# EAGLE library part PIN-LEISTE_1*32 (library Stecker_Pins)
Pin-Leiste, 1*32
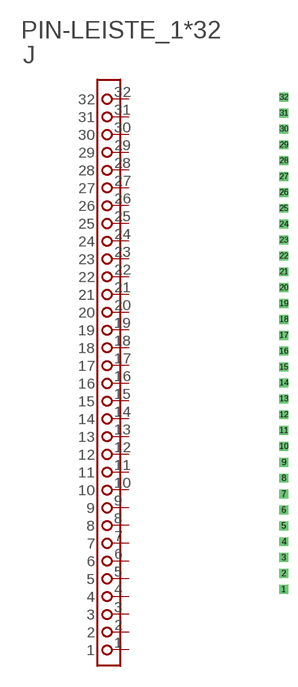
[diagram p7: symbol with the pads of 1X32; footprint 1X32]

Designator prefix J

## PIN-LEISTE_132  [1X32]
1  1  pas
2  2  pas
3  3  pas
4  4  pas
5  5  pas
6  6  pas
7  7  pas
8  8  pas
9  9  pas
10  10  pas
11  11  pas
12  12  pas
13  13  pas
14  14  pas
15  15  pas
16  16  pas
17  17  pas
18  18  pas
19  19  pas
20  20  pas
21  21  pas
22  22  pas
23  23  pas
24  24  pas
25  25  pas
26  26  pas
27  27  pas
28  28  pas
29  29  pas
30  30  pas
31  31  pas
32  32  pas

## Footprint 1X32 (pad centres in mm)
drill 0.8 pad 1.422 square: 1 0,0; 2 0,2.54; 3 0,5.08; 4 0,7.62; 5 0,10.16; 6 0,12.7; 7 0,15.24; 8 0,17.78; 9 0,20.32; 10 0,22.86; 11 0,25.4; 12 0,27.94; 13 0,30.48; 14 0,33.02; 15 0,35.56; 16 0,38.1; 17 0,40.64; 18 0,43.18; 19 0,45.72; 20 0,48.26; 21 0,50.8; 22 0,53.34; 23 0,55.88; 24 0,58.42; 25 0,60.96; 26 0,63.5; 27 0,66.04; 28 0,68.58; 29 0,71.12; 30 0,73.66; 31 0,76.2; 32 0,78.74